# Altium schematic symbol library EL-sense_Pressure_Sensors.SchLib: 1 symbol
Pins are listed as number, name and electrical type; pins without a type are passive.

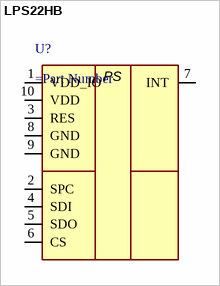
[diagram p0: symbol LPS22HB]

## LPS22HB
designator U?
pins: 1 VDD_IO, 2 SPC "SCL/SPC", 3 RES, 4 SDI "SDA/SDI/SDO", 5 SDO "SDO/SA0", 6 CS "SDA/SPC", 7 INT, 8 GND, 9 GND, 10 VDD
text: PS